# Altium footprint library tobre-components.PcbLib: 3 footprints
Each footprint in its own frame and in the unit in brackets; x right, y up, seen from the top. Pads: shape width x height; smd on the part's side, far side on the other; paste and mask are expansions set on the pad; w line width, h text height; cw(c..) or ccw(c..) is an arc to the next point about the centre after c.
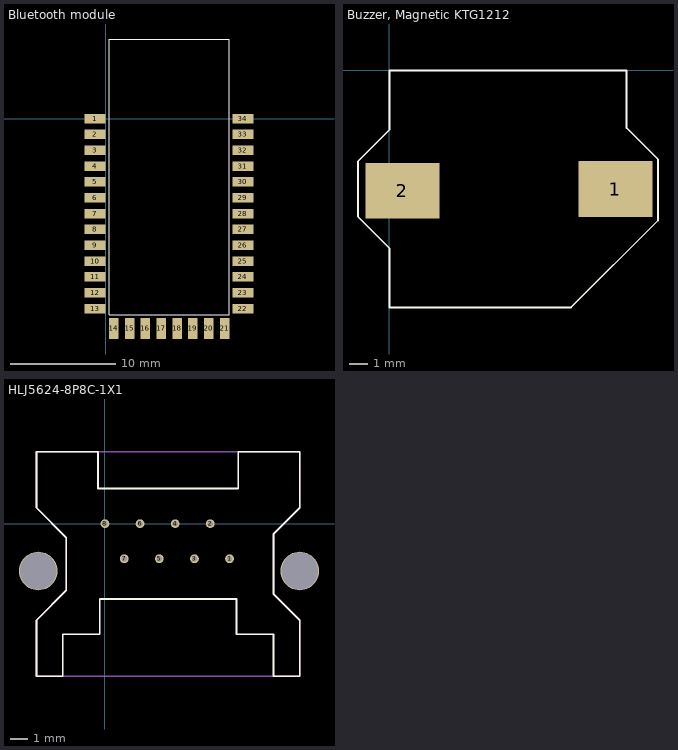
[diagram p0: the footprints below, top view; thin cyan lines are the x and y axes]

## Bluetooth module [mm] "HC-XX, HM-XX"
height 2
pads (34):
  rect 2x0.9 smd: 1(-1,0) 2(-1,-1.5) 3(-1,-3) 4(-1,-4.5) 5(-1,-6) 6(-1,-7.5) 7(-1,-9) 8(-1,-10.5) 9(-1,-12) 10(-1,-13.5) 11(-1,-15) 12(-1,-16.5) 13(-1,-18) 22(13.01,-18) 23(13.01,-16.5) 24(13.01,-15) 25(13.01,-13.5) 26(13.01,-12) 27(13.01,-10.5) 28(13.01,-9) 29(13.01,-7.5) 30(13.01,-6) 31(13.01,-4.5) 32(13.01,-3) 33(13.01,-1.5) 34(13.01,0)
  rect 0.9x2 smd: 14(0.77,-19.89) 15(2.27,-19.89) 16(3.77,-19.89) 17(5.27,-19.89) 18(6.77,-19.89) 19(8.27,-19.89) 20(9.77,-19.89) 21(11.27,-19.89)
Top Overlay:
  lines w0.1: 0.325,-18.575 0.325,7.55 11.7,7.55 11.7,-18.575 0.325,-18.575
Mechanical 15:
  text ".Designator" at 6.604,-13.716 h1.52
3D body: height 2.35, standoff 0, extent -0.93,-19.76 13.09,8.25

## Buzzer, Magnetic KTG1212 [mm] "Kingstate SMD magnetic buzzer KTG1212"
height 0.18
pads (2):
  rect 4x3 smd: 1(12.2,-6.4) 2(0.7,-6.5)
Top Overlay:
  lines w0.1: -1.7,-7.9 0,-9.6 0,-12.8 9.8,-12.8 14.5,-8.1 14.5,-4.8 12.8,-3.1 12.8,-0.325 12.8,0 0,0 0,-3.2 -1.7,-4.9 -1.7,-7.9
3D body: height 7.1, standoff 0, extent 0,-12.8 12.8,0

## HLJ5624-8P8C-1X1 [mm] "RJ45 Modular Jack 8P8C"
height 14.5
pads (10):
  round 0.5 hole 0.3: 1(7.1,-2) 2(6,0) 3(5.1,-2) 4(4,0) 5(3.1,-2) 6(2,0) 7(1.1,-2) 8(0,0)
  round 2.2 hole 2.1 unplated: ""(-3.8,-2.7) ""(11.1,-2.7)
Top Overlay:
  lines w0.1: -3.9,-8.7 -2.4,-8.7 -2.4,-6.3 -0.3,-6.3 -0.3,-4.3 7.5,-4.3 7.5,-6.3 9.6,-6.3 9.6,-8.7 11.1,-8.7 11.1,-5.5 9.6,-4 9.6,-0.6 11.1,0.9 11.1,4.1 7.6,4.1 7.6,2 5.25,2 1.95,2 -0.4,2 -0.4,4.1 -3.9,4.1 -3.9,0.9 -2.2,-0.8 -2.2,-3.8 -3.9,-5.5 -3.9,-8.7
Mechanical 15:
  lines w0.1: -3.9,-8.7 11.1,-8.7 11.1,-5.5 9.625,-4.025 9.625,-0.575 11.1,0.9 11.1,4.1 -3.9,4.1 -3.9,0.9 -2.2,-0.8 -2.2,-3.8 -3.9,-5.5 -3.9,-8.7
3D body: height 14.55, standoff -3.25, extent -4.9,-8.7 12.1,4.1